# Altium footprint library IDC_100_2x2_RA.PcbLib: 1 footprints
Each footprint in its own frame and in the unit in brackets; x right, y up, seen from the top. Pads: shape width x height; smd on the part's side, far side on the other; paste and mask are expansions set on the pad; w line width, h text height; cw(c..) or ccw(c..) is an arc to the next point about the centre after c.
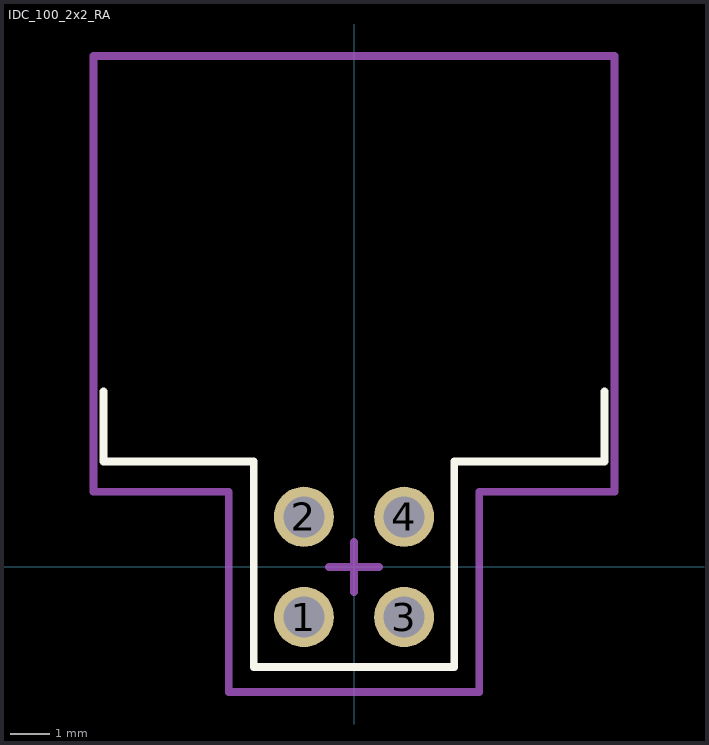
[diagram p0: the footprint, top view; thin cyan lines are the x and y axes]

## IDC_100_2x2_RA [mil]
pads (4):
  round 60 hole 41: 1(-50,-50) 2(-50,50) 3(50,-50) 4(50,50)
Top Overlay:
  lines w7.87: -250,175 -250,105 -100,105 -100,-100 0,-100 100,-100 100,105 250,105 250,175
Mechanical 15:
  lines w7.87: -25,0 0,0 ; 0,-25 0,0 ; 0,25 0,0 ; 25,0 0,0 ; -260,75 -260,510 260,510 260,75 125,75 125,-125 -125,-125 -125,75 -260,75
3D body "75867130lf.stp": height 366.19, standoff -119.66, extent -241.93,-65 241.93,485